# Altium schematic symbol library stm8电机控制原理图.SchLib: 16 symbols
Pins are listed as number, name and electrical type; pins without a type are passive.

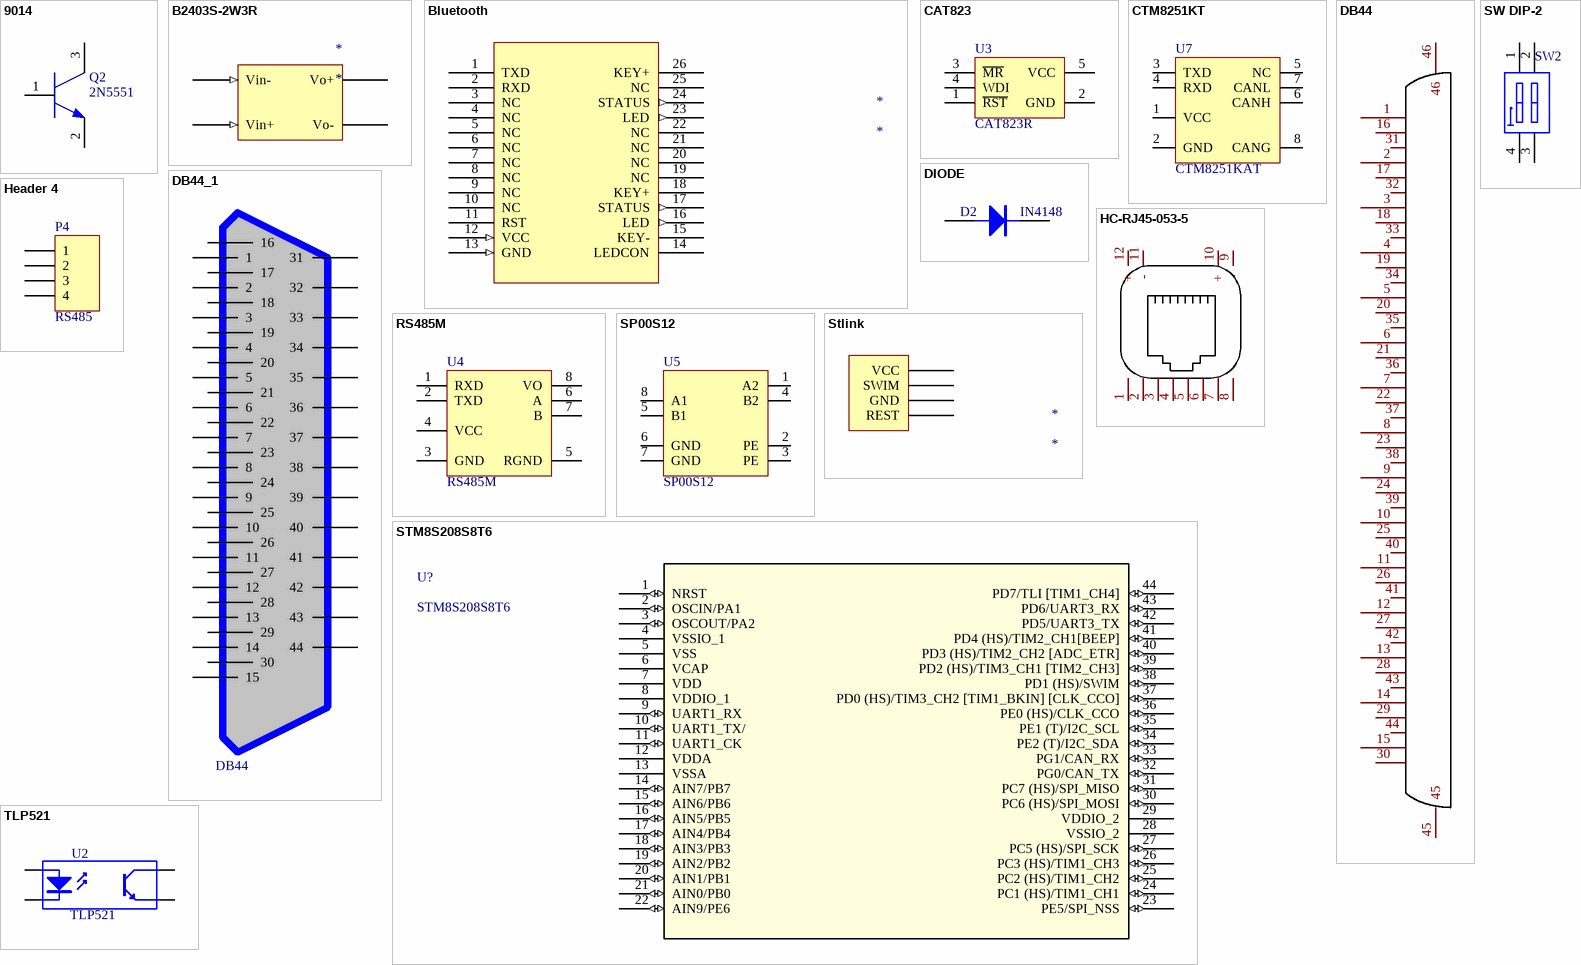
[diagram p0: symbols 9014 to TLP521]

## 9014
designator Q2, comment 2N5551
footprint SOT-23
pins: 1 b, 2 e, 3 c

## B2403S-2W3R
designator *
pins: 1 Vin+ (in), 2 Vin- (in), 3 Vo-, 4 Vo+ (power)

## Bluetooth
designator *
footprint HC-22/08/42新_SMT
pins: 1 TXD, 2 RXD, 3 NC, 4 NC, 5 NC, 6 NC, 7 NC, 8 NC, 9 NC, 10 NC, 11 RST, 12 VCC (in), 13 GND (in), 14 LEDCON, 15 KEY-, 16 LED (out), 17 STATUS (out), 18 KEY+, 19 NC, 20 NC, 21 NC, 22 NC, 23 LED (out), 24 STATUS (out), 25 NC, 26 KEY+

## CAT823
designator U3, comment CAT823R
footprint SOT23-5
footprint TSOT-23-5_L2.9-W1.6-P0.95-LS2.8-BR
pins: 1 ~{RST}, 2 GND, 3 ~{MR}, 4 WDI, 5 VCC

## CTM8251KT
designator U7, comment CTM8251KAT
footprint CTM8251AT
footprint COMM-TH_CTM8251KAT
pins: 1 VCC, 2 GND, 3 TXD, 4 RXD, 5 NC, 6 CANH, 7 CANL, 8 CANG

## DB44
designator P?, comment FDB4401-F0DB301K6KA  (value not drawn)
Manufacturer: TXGA(特思嘉); Add into BOM: yes; Connector Type: D-Sub; Gender: 母; Current Rating (Max): 3A; Name: FDB4401-F0DB301K6KA; Symbol: FDB4401-F0DB301K6KA; Device: FDB4401-F0DB301K6KA; LCSC Part Name: D-Sub 母 P数:44; Supplier Part: C2834287; Manufacturer Part: FDB4401-F0DB301K6KA; Supplier Footprint: 插件; JLCPCB Part Class: Extended Part; Datasheet: https://atta.szlcsc.com/upload/public/pdf/source/20210517/C2834287_CA60DE139560E1DCFDAD400CC2FA883B.pdf; Supplier: LCSC; Convert to PCB: yes; Number of Pins: 44; Number of Rows: 2; Mounting Style: 弯插; Operating Temperature Range: -55℃~+105℃
pins: 1, 2, 3, 4, 5, 6, 7, 8, 9, 10, 11, 12, 13, 14, 15, 16, 17, 18, 19, 20, 21, 22, 23, 24, 25, 26, 27, 28, 29, 30, 31, 32, 33, 34, 35, 36, 37, 38, 39, 40, 41, 42, 43, 44, 45, 46

## DB44_1
designator *1, comment DB44
pins: 1, 2, 3, 4, 5, 6, 7, 8, 9, 10, 11, 12, 13, 14, 15, 16, 17, 18, 19, 20, 21, 22, 23, 24, 25, 26, 27, 28, 29, 30, 31, 32, 33, 34, 35, 36, 37, 38, 39, 40, 41, 42, 43, 44

## DIODE
designator D2, comment IN4148
Diode
footprint DO-214AC
pins: 1 A, 2 K

## HC-RJ45-053-5
designator U?  (value not drawn)
Manufacturer: HCTL(华灿天禄); Add into BOM: yes; Name: HC-RJ45-053-5; Symbol: HC-RJ45-053-5; Device: HC-RJ45-053-5; LCSC Part Name: RJ45; Supplier Part: C3010566; Manufacturer Part: HC-RJ45-053-5; Supplier Footprint: 插件; JLCPCB Part Class: Extended Part; Datasheet: https://atta.szlcsc.com/upload/public/pdf/source/20220520/2CAC3F22E514D4E0A4A518B495C11743.pdf; Supplier: LCSC; Convert to PCB: yes
3D model RJ45-TH_HCTL_HC-RJ45-053-5
pins: 1, 2, 3, 4, 5, 6, 7, 8, 9 -, 10 +, 11 -, 12 +

## Header 4
designator P4, comment RS485
Header, 4-Pin; LatestRevisionDate: 17-Jul-2002; LatestRevisionNote: Re-released for DXP Platform.; Publisher: Altium Limited
footprint 4PDZ
signal-integrity model Connector
footprint HDR1X4 (Connector; Header; 4 Position)
footprint KF128-5.08-4P (螺钉式接线端子，脚距5.08mm)
pins: 1, 2, 3, 4

## RS485M
designator U4
footprint RS485M
footprint COMM-TH_RSM485M
pins: 1 RXD, 2 TXD, 3 GND, 4 VCC, 5 RGND, 6 A, 7 B, 8 VO

## SP00S12
designator U5
footprint RS485M
footprint SP00S12
pins: 1 A2, 2 PE, 3 PE, 4 B2, 5 B1, 6 GND, 7 GND, 8 A1

## Stlink
designator *
pins: 1 VCC, 2 SWIM, 3 GND, 4 REST

## STM8S208S8T6
designator U?
No Description Available; Mfr_Name: STMicroelectronics; Copyright: Copyright (C) 2022 Ultra Librarian. All rights reserved.; Manufacturer_Part_Number: STM8S208S8T6; RefDes: RefDes; Type: DEV
footprint LQFP44_STM
pins: 1 NRST (io), 2 OSCIN/PA1 (io), 3 OSCOUT/PA2 (io), 4 VSSIO_1, 5 VSS, 6 VCAP (power), 7 VDD (power), 8 VDDIO_1 (power), 9 UART1_RX (io), 10 UART1_TX/ (io), 11 UART1_CK (io), 12 VDDA (power), 13 VSSA, 14 AIN7/PB7 (io), 15 AIN6/PB6 (io), 16 AIN5/PB5 (io), 17 AIN4/PB4 (io), 18 AIN3/PB3 (io), 19 AIN2/PB2 (io), 20 AIN1/PB1 (io), 21 AIN0/PB0 (io), 22 AIN9/PE6 (io), 23 PE5/SPI_NSS (io), 24 PC1 (HS)/TIM1_CH1 (io), 25 PC2 (HS)/TIM1_CH2 (io), 26 PC3 (HS)/TIM1_CH3 (io), 27 PC5 (HS)/SPI_SCK (io), 28 VSSIO_2, 29 VDDIO_2 (power), 30 PC6 (HS)/SPI_MOSI (io), 31 PC7 (HS)/SPI_MISO (io), 32 PG0/CAN_TX (io), 33 PG1/CAN_RX (io), 34 PE2 (T)/I2C_SDA (io), 35 PE1 (T)/I2C_SCL (io), 36 PE0 (HS)/CLK_CCO (io), 37 PD0 (HS)/TIM3_CH2 [TIM1_BKIN] [CLK_CCO] (io), 38 PD1 (HS)/SWIM (io), 39 PD2 (HS)/TIM3_CH1 [TIM2_CH3] (io), 40 PD3 (HS)/TIM2_CH2 [ADC_ETR] (io), 41 PD4 (HS)/TIM2_CH1[BEEP] (io), 42 PD5/UART3_TX (io), 43 PD6/UART3_RX (io), 44 PD7/TLI [TIM1_CH4] (io)

## SW DIP-2
designator SW2  (value not drawn)
DIP Switch, 2 Position, SPST; Published: 24-Mar-1999; LatestRevisionDate: 17-Jul-2002; LatestRevisionNote: Re-released for DXP Platform.; PackageReference: DIP-4; Publisher: Altium Limited
footprint NVE02
simulation model dpsw2 (Spice Subcircuit)
footprint DIP-2P (6.6*9.9*7mm)
pins: 1 A1, 2 A2, 3 B2, 4 B1

## TLP521
designator U2
footprint SMD521-1
pins: 1 A "Anode", 2 K "Cathode", 3 E "Emitter", 4 C "Collector"